# EAGLE library part PIC16F1789-I_P (library PIC16F1789-I_P)
PIC16F1789-I/P, 8 bit PIC Microcontroller 32MHz 16384 words Flash, 2048 B RAM, USB I2C LIN 40-Pin PDIP Source: Datasheet <https://datasheet.datasheetarchive.com/originals/distributors/Datasheets-DGA25/1726709.pdf>
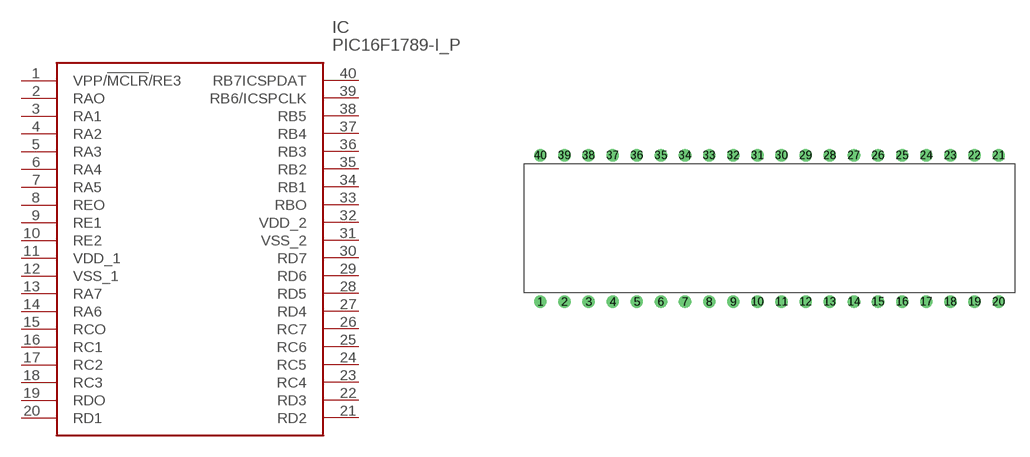
[diagram p0: symbol with the pads of PIC16F1789-I_P; footprint PIC16F1789-I_P]

Designator prefix IC

## PIC16F1789-I_P (Arrow_Part_Number: PIC16F1789-I/P; Arrow_Price-Stock: https://www.arrow.com/en/products/pic16f1789-ip/microchip-technology?region=nac; Description: PIC16F1789-I/P, 8 bit PIC Microcontroller 32MHz 16384 words Flash, 2048 B RAM, USB I2C LIN 40-Pin PDIP; Height: mm; Manufacturer_Name: Microchip; Manufacturer_Part_Number: PIC16F1789-I/P; Mouser_Part_Number: 579-PIC16F1789-I/P; Mouser_Price-Stock: https://www.mouser.co.uk/ProductDetail/Microchip-Technology-Atmel/PIC16F1789-I-P?qs=7DhvGWG6CtcNtC1kjOxGJQ%3D%3D)  [PIC16F1789-I_P]
1  VPP/!MCLR!/RE3
2  RAO
3  RA1
4  RA2
5  RA3
6  RA4
7  RA5
8  REO
9  RE1
10  RE2
11  VDD_1  pwr
12  VSS_1  pwr
13  RA7
14  RA6
15  RCO
16  RC1
17  RC2
18  RC3
19  RDO
20  RD1
21  RD2
22  RD3
23  RC4
24  RC5
25  RC6
26  RC7
27  RD4
28  RD5
29  RD6
30  RD7
31  VSS_2  pwr
32  VDD_2  pwr
33  RBO
34  RB1
35  RB2
36  RB3
37  RB4
38  RB5
39  RB6/ICSPCLK  in
40  RB7ICSPDAT  in

## Footprint PIC16F1789-I_P (pad centres in mm)
PIC16F1789-I_P
drill 0.784 pad 1.184: 1 0,0; 2 2.54,0; 3 5.08,0; 4 7.62,0; 5 10.16,0; 6 12.7,0; 7 15.24,0; 8 17.78,0; 9 20.32,0; 10 22.86,0; 11 25.4,0; 12 27.94,0; 13 30.48,0; 14 33.02,0; 15 35.56,0; 16 38.1,0; 17 40.64,0; 18 43.18,0; 19 45.72,0; 20 48.26,0; 21 48.26,15.43; 22 45.72,15.43; 23 43.18,15.43; 24 40.64,15.43; 25 38.1,15.43; 26 35.56,15.43; 27 33.02,15.43; 28 30.48,15.43; 29 27.94,15.43; 30 25.4,15.43; 31 22.86,15.43; 32 20.32,15.43; 33 17.78,15.43; 34 15.24,15.43; 35 12.7,15.43; 36 10.16,15.43; 37 7.62,15.43; 38 5.08,15.43; 39 2.54,15.43; 40 0,15.43